# Altium integrated library pedals-vactrol.IntLib: 4 symbols
Pins are listed as number, name and electrical type; pins without a type are passive.

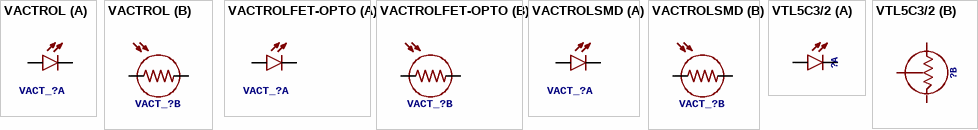
[diagram p0: symbols VACTROL to VTL5C3/2]

## VACTROL
designator VACT_?
footprint _LDR
part A pins: ANODE, CATHODE
part B pins: 1, 2

## VACTROLFET-OPTO
designator VACT_?
footprint DIP6
part A pins: 1 ANODE, 2 CATHODE
part B pins: 4 1, 6 2

## VACTROLSMD
designator VACT_?
footprint SOIC6
part A pins: 1 ANODE, 2 CATHODE
part B pins: 4 1, 6 2

## VTL5C3/2
designator ?
footprint _LDR3/2
part A pins: L+ ANODE, L- CATHODE
part B pins: 1 L1, 2 L2, 3 L3